# EAGLE library part MSP430FR5738 (library Mine)
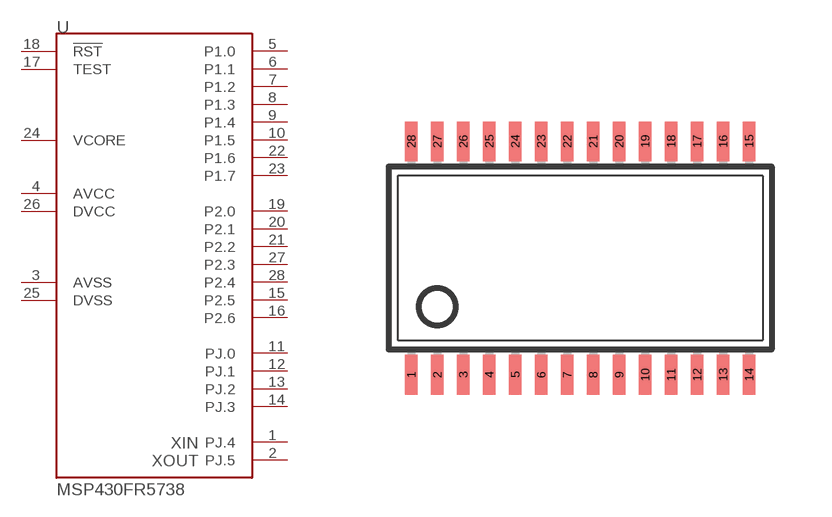
[diagram p88: symbol with the pads of TSSOP28; footprint TSSOP28]

Designator prefix -

## MSP430FR5738PW  [TSSOP28]
1  PJ.4
2  PJ.5
3  AVSS  pwr
4  AVCC  pwr
5  P1.0
6  P1.1
7  P1.2
8  P1.3
9  P1.4
10  P1.5
11  PJ.0
12  PJ.1
13  PJ.2
14  PJ.3
15  P2.5
16  P2.6
17  TEST
18  !RST
19  P2.0
20  P2.1
21  P2.2
22  P1.6
23  P1.7
24  VCORE  sup
25  DVSS  pwr
26  DVCC  pwr
27  P2.3
28  P2.4

## Footprint TSSOP28 (pad centres in mm)
Thin Shrink Small Outline Plastic 28 MAX3223-MAX3243.pdf
smd 0.305 x 0.991: 1 -4.225,-2.918; 2 -3.575,-2.918; 3 -2.925,-2.918; 4 -2.275,-2.918; 5 -1.625,-2.918; 6 -0.975,-2.918; 7 -0.325,-2.918; 8 0.325,-2.918; 9 0.975,-2.918; 10 1.625,-2.918; 11 2.275,-2.918; 12 2.925,-2.918; 13 3.575,-2.918; 14 4.225,-2.918; 15 4.225,2.918; 16 3.575,2.918; 17 2.925,2.918; 18 2.275,2.918; 19 1.625,2.918; 20 0.975,2.918; 21 0.325,2.918; 22 -0.325,2.918; 23 -0.975,2.918; 24 -1.625,2.918; 25 -2.275,2.918; 26 -2.925,2.918; 27 -3.575,2.918; 28 -4.225,2.918